# Altium footprint library CUHZ5V6,H3F.PcbLib: 3 footprints
Each footprint in its own frame and in the unit in brackets; x right, y up, seen from the top. Pads: shape width x height; smd on the part's side, far side on the other; paste and mask are expansions set on the pad; w line width, h text height; cw(c..) or ccw(c..) is an arc to the next point about the centre after c.
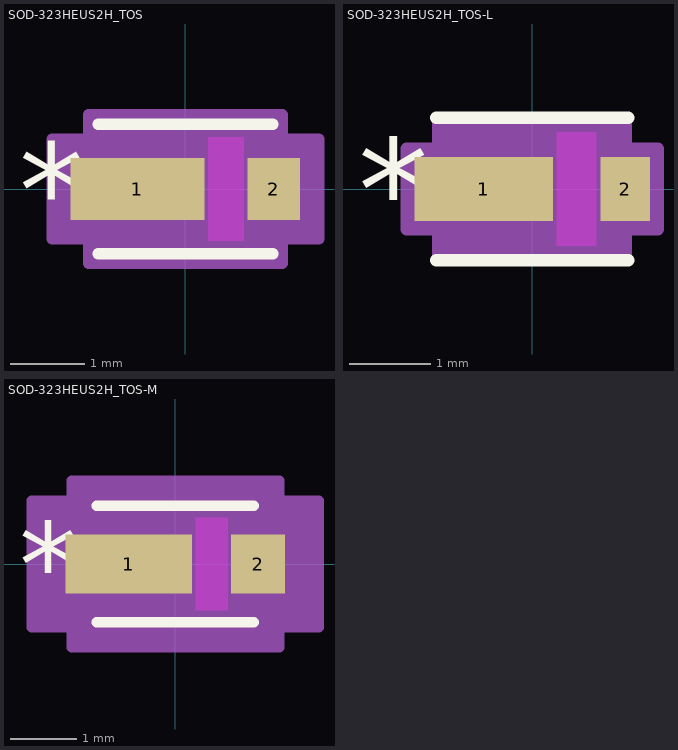
[diagram p0: the footprints below, top view; thin cyan lines are the x and y axes]

## SOD-323HEUS2H_TOS [mil]
pads (2):
  rect 71x33 smd paste+0 mask+0: 1(-25.5,0)
  rect 28x33 smd paste+0 mask+0: 2(47,0)
Top Layer keep-out:
  region: 12,-27.5 12,27.5 31,27.5 31,-27.5
Top Overlay:
  lines w6: -46.5,-34.5 46.5,-34.5 ; -46.5,34.5 46.5,34.5
  text ".Designator" at -137.5,-25 h50
  text "*" at -88.5,-25 h50
Keep-Out Layer:
  region: 12,-27.5 12,27.5 31,27.5 31,-27.5
Mechanical 13:
  lines w1: -41.5,-14.75 -26.75,-29.5 ; -41.5,14.75 -26.75,29.5 ; -53,-16.5 -53,16.5 -41.5,16.5 -41.5,-16.5 -53,-16.5 ; -41.5,-29.5 41.5,-29.5 41.5,29.5 -41.5,29.5 -41.5,-29.5 ; 41.5,-16.5 41.5,16.5 53,16.5 53,-16.5 41.5,-16.5
  text "*" at -44,-25 h50
  text ".Designator" at -137.5,-25 h50
Mechanical 15:
  region: -51.5,-26.5 -71,-26.5 -71,26.5 -51.5,26.5 -51.5,39.5 51.5,39.5 51.5,26.5 71,26.5 71,-26.5 51.5,-26.5 51.5,-39.5 -51.5,-39.5
  lines w6: -71,-26.5 -71,26.5 -51.5,26.5 -51.5,39.5 51.5,39.5 51.5,26.5 71,26.5 71,-26.5 51.5,-26.5 51.5,-39.5 -51.5,-39.5 -51.5,-26.5 -71,-26.5
3D body "SOD-323HEUS2H_TOS.step": height 27.09, standoff 0, extent -52.99,-29.49 52.99,29.49

## SOD-323HEUS2H_TOS-L [mil]
pads (2):
  rect 67x31 smd paste+0 mask+0: 1(-23.5,0)
  rect 24x31 smd paste+0 mask+0: 2(45,0)
Top Layer keep-out:
  region: 12,-27.5 12,27.5 31,27.5 31,-27.5
Top Overlay:
  lines w6: -46.5,-34.5 46.5,-34.5 ; -46.5,34.5 46.5,34.5
  text ".Designator" at -137.5,-25 h50
  text "*" at -84.5,-25 h50
Keep-Out Layer:
  region: 12,-27.5 12,27.5 31,27.5 31,-27.5
Mechanical 13:
  lines w1: -41.5,-14.75 -26.75,-29.5 ; -41.5,14.75 -26.75,29.5 ; -53,-16.5 -53,16.5 -41.5,16.5 -41.5,-16.5 -53,-16.5 ; -41.5,-29.5 41.5,-29.5 41.5,29.5 -41.5,29.5 -41.5,-29.5 ; 41.5,-16.5 41.5,16.5 53,16.5 53,-16.5 41.5,-16.5
  text "*" at -44,-25 h50
  text ".Designator" at -137.5,-25 h50
Mechanical 15:
  region: -45.5,-19.5 -61,-19.5 -61,19.5 -45.5,19.5 -45.5,33.5 45.5,33.5 45.5,19.5 61,19.5 61,-19.5 45.5,-19.5 45.5,-33.5 -45.5,-33.5
  lines w6: -61,-19.5 -61,19.5 -45.5,19.5 -45.5,33.5 45.5,33.5 45.5,19.5 61,19.5 61,-19.5 45.5,-19.5 45.5,-33.5 -45.5,-33.5 -45.5,-19.5 -61,-19.5
3D body "SOD-323HEUS2H_TOS.step": height 27.09, standoff 0, extent -52.99,-29.49 52.99,29.49

## SOD-323HEUS2H_TOS-M [mil]
pads (2):
  rect 75x35 smd paste+0 mask+0: 1(-27.5,0)
  rect 32x35 smd paste+0 mask+0: 2(49,0)
Top Layer keep-out:
  region: 12,-27.5 12,27.5 31,27.5 31,-27.5
Top Overlay:
  lines w6: -46.5,-34.5 46.5,-34.5 ; -46.5,34.5 46.5,34.5
  text ".Designator" at -137.5,-25 h50
  text "*" at -92.5,-25 h50
Keep-Out Layer:
  region: 12,-27.5 12,27.5 31,27.5 31,-27.5
Mechanical 13:
  lines w1: -41.5,-14.75 -26.75,-29.5 ; -41.5,14.75 -26.75,29.5 ; -53,-16.5 -53,16.5 -41.5,16.5 -41.5,-16.5 -53,-16.5 ; -41.5,-29.5 41.5,-29.5 41.5,29.5 -41.5,29.5 -41.5,-29.5 ; 41.5,-16.5 41.5,16.5 53,16.5 53,-16.5 41.5,-16.5
  text "*" at -44,-25 h50
  text ".Designator" at -137.5,-25 h50
Mechanical 15:
  region: -61.5,-37.5 -85,-37.5 -85,37.5 -61.5,37.5 -61.5,49.5 61.5,49.5 61.5,37.5 85,37.5 85,-37.5 61.5,-37.5 61.5,-49.5 -61.5,-49.5
  lines w6: -85,-37.5 -85,37.5 -61.5,37.5 -61.5,49.5 61.5,49.5 61.5,37.5 85,37.5 85,-37.5 61.5,-37.5 61.5,-49.5 -61.5,-49.5 -61.5,-37.5 -85,-37.5
3D body "SOD-323HEUS2H_TOS.step": height 27.09, standoff 0, extent -52.99,-29.49 52.99,29.49